# EAGLE library part 691313710007 (library WR-TBL Pluggable Connector)
WR-TBL Serie 3137 - 5.00 mm Close Horizontal PCB Header KIND PROPERTIES Pitch 5 mm MATERIAL PROPERTIES Insulator Material PA66 Insulator Flammability Rating UL94 V-0 Contact Material Brass Contact Plating Tin GENERAL INFORMATION Operating Temperature -40 up to +105 °C Compliance RoHS ELECTRICAL PROPERTIES IR cULus 20 A IR VDE 20 A Working Voltage [cULus] 300 V (AC) Working Voltage [VDE] 300 V (AC) Withstanding Voltage [cULus] 1600 V (AC) Withstanding Voltage [VDE] 2500 V (AC) Contact Resistance [cULus] 20 mΩ Contact Resistance [VDE] 20 mΩ CERTIFICATION cULus Approval E315414 VDE Approval 40023195 <https://www.we-online.com/catalog/media/o33266v209%20Family_WR-TBL_69131371000x.jpg> Details see: https://www.we-online.com/catalog/en/TBL_5_00_3137_CLOSE_HORIZONTAL_PCB_HEADER_69131371000X/ Updated by Ella Wu 2022-07-25 2022(C) Wurth Elektronik
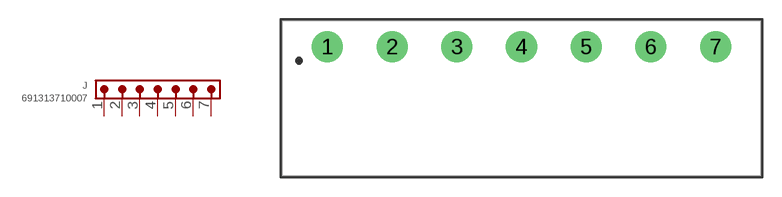
[diagram p169: symbol with the pads of 691313710007; footprint 691313710007]

Designator prefix J

## 691313710007 (DATASHEET-URL: https://www.we-online.com/redexpert/spec/691313710007?ae; IR-UL: 20A; IR-VDE: 20A; MOUNT: THT; PART-NUMBER: 691313710007; PINS: 7; PITCH: 5mm; TYPE: Horizontal; VALUE: 691313710007; WORKING-VOLTAGE-UL: 300V (AC); WORKING-VOLTAGE-VDE: 300V (AC))  [691313710007]
1  1  pas
2  2  pas
3  3  pas
4  4  pas
5  5  pas
6  6  pas
7  7  pas

## Footprint 691313710007 (pad centres in mm)
WR-TBL Serie 3137 - 5.00 mm Close Horizontal PCB Header Max Height = 8.5mm , Pitch 5mm , 7pins
drill 1.6: 1 -15,0; 2 -10,0; 3 -5,0; 4 0,0; 5 5,0; 6 10,0; 7 15,0